# EAGLE library part LM22678 (library national-semi)
SIMPLE SWITCHER® 5A Step-Down Voltage Regulator with Precision Enable
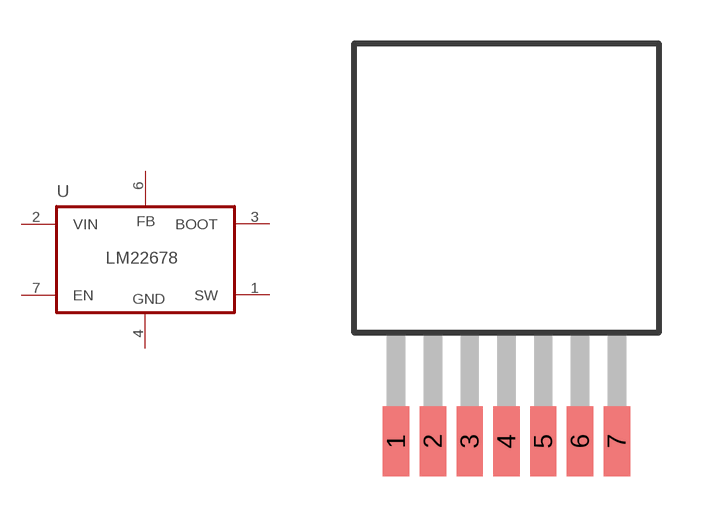
[diagram p6: symbol with the pads of TO263-7; footprint TO263-7]

Designator prefix U

## LM22678  [TO263-7]
1  SW  out
2  VIN  in
3  BOOT  pas
4  GND  pwr
6  FB  pas
7  EN  pas

## Footprint TO263-7 (pad centres in mm)
TO-263 7-Lead Plastic THIN Package 1.27mm lead pitch, NS Package Number TJ7A
smd 0.91 x 2.41: 1 -3.81,-8.75; 2 -2.54,-8.75; 3 -1.27,-8.75; 4 0,-8.75; 5 1.27,-8.75; 6 2.54,-8.75; 7 3.81,-8.75